# EAGLE library part 91A2 (library jason-test)
91 Series Potentiometer
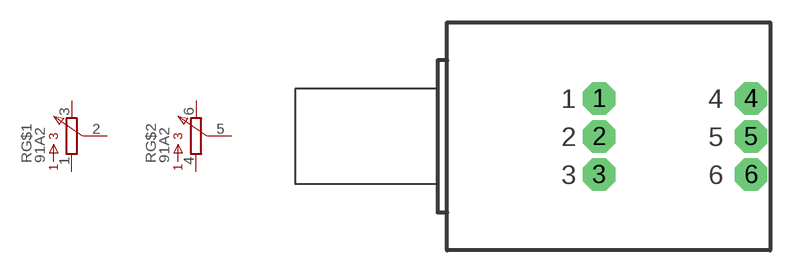
[diagram p38: symbol with the pads of 91A2; footprint 91A2]

Designator prefix R; gates G$1=VR G$2=VR

## 91A2  [91A2]
1  G$1:1  pas
2  G$1:2  pas
3  G$1:3  pas
4  G$2:1  pas
5  G$2:2  pas
6  G$2:3  pas

## Footprint 91A2 (pad centres in mm)
91 Series
drill 1.27 pad 2.184 octagon: 1 0,2.54; 2 0,0; 3 0,-2.54; 4 10.16,2.54; 5 10.16,0; 6 10.16,-2.54